# Altium footprint library Miscellaneous Devices.PcbLib: 178 footprints (part 8 of 12)
Each footprint in its own frame and in the unit in brackets; x right, y up, seen from the top. Pads: shape width x height; smd on the part's side, far side on the other; paste and mask are expansions set on the pad; w line width, h text height; cw(c..) or ccw(c..) is an arc to the next point about the centre after c.
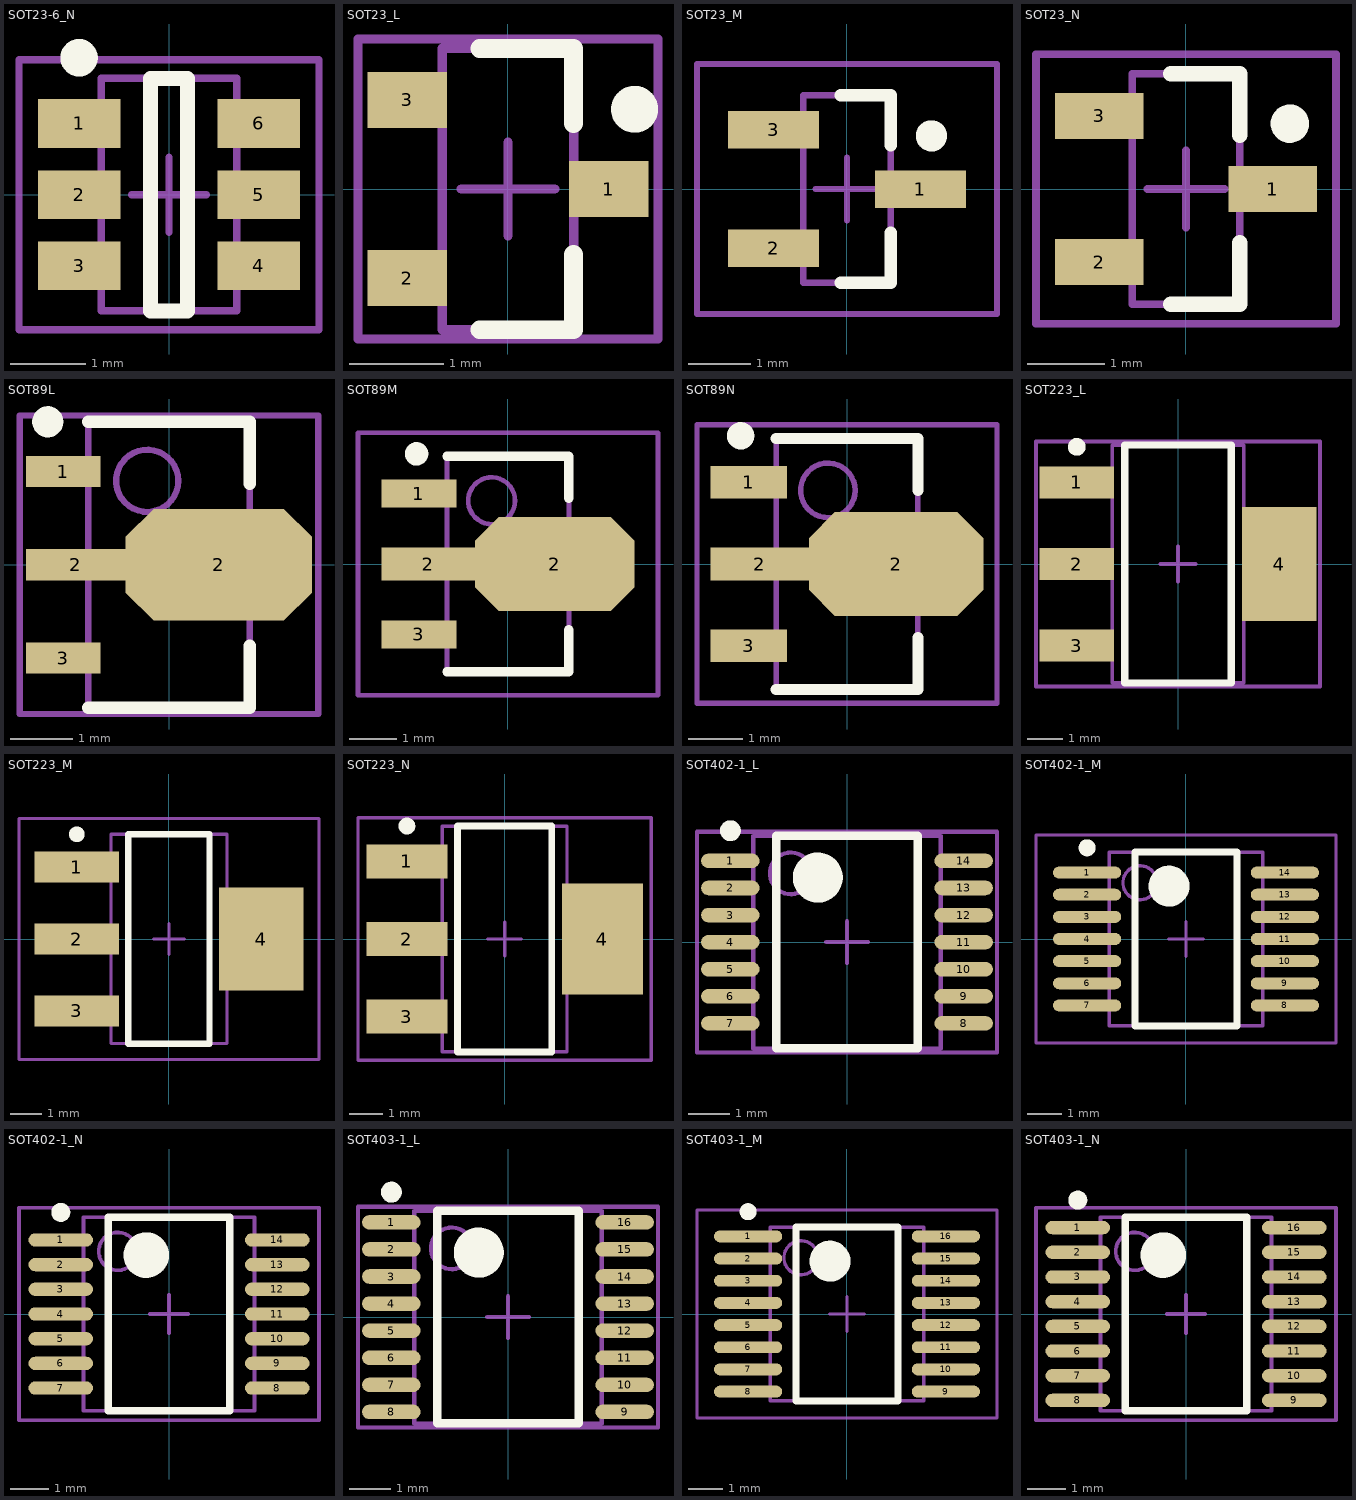
[diagram p7: the footprints below, top view; thin cyan lines are the x and y axes]

## SOT23-6_N [mm] "SOT23, 6-Leads, Body 2.9x1.6mm, Pitch 0.95mm, Lead Span 2.7mm, IPC Medium Density"
height 1.45
pads (6):
  rect 1.1x0.65 smd: 1(-1.2,0.95) 2(-1.2,0) 3(-1.2,-0.95) 4(1.2,-0.95) 5(1.2,0) 6(1.2,0.95)
Top Overlay:
  circle w0.25: c-1.2,1.825 r0.125
  lines w0.2: -0.25,-1.55 -0.25,1.55 0.25,1.55 0.25,-1.55 -0.25,-1.55
Mechanical 13:
  lines w0.1: -0.9,-1.55 0.9,-1.55 0.9,1.55 -0.9,1.55 -0.9,-1.55
Mechanical 15:
  lines w0.1: -0.5,0 0.5,0 ; 0,-0.5 0,0.5 ; -2,-1.8 2,-1.8 2,1.8 -2,1.8 -2,-1.8
3D body: height 1.45, standoff 0, extent -0.9,-1.55 0.9,1.55

## SOT23_L [mm] "SOT23, 3-Leads, Body 2.9x1.3mm, Pitch 0.95mm, Lead Span 2.3mm - Reverse Pinning, IPC High Density"
height 1.1
pads (3):
  rect 0.85x0.6 smd: 1(1.075,0) 2(-1.075,-0.95) 3(-1.075,0.95)
Top Overlay:
  circle w0.25: c1.35,0.85 r0.125
  lines w0.2: -0.3,-1.5 0.7,-1.5 0.7,-0.7 ; -0.3,1.5 0.7,1.5 0.7,0.7
Mechanical 13:
  lines w0.1: -0.7,-1.5 -0.7,1.5 0.7,1.5 0.7,-1.5 -0.7,-1.5
Mechanical 15:
  lines w0.1: -0.5,0 0.5,0 ; 0,-0.5 0,0.5 ; -1.6,-1.6 -1.6,1.6 1.6,1.6 1.6,-1.6 -1.6,-1.6
3D body: height 1.1, standoff 0, extent -0.7,-1.5 0.7,1.5

## SOT23_M [mm] "SOT23, 3-Leads, Body 2.9x1.3mm, Pitch 0.95mm, Lead Span 2.3mm - Reverse Pinning, IPC Low Density"
height 1.1
pads (3):
  rect 1.45x0.6 smd: 1(1.175,0) 2(-1.175,-0.95) 3(-1.175,0.95)
Top Overlay:
  circle w0.25: c1.35,0.85 r0.125
  lines w0.2: -0.1,-1.5 0.7,-1.5 0.7,-0.7 ; -0.1,1.5 0.7,1.5 0.7,0.7
Mechanical 13:
  lines w0.1: -0.7,-1.5 -0.7,1.5 0.7,1.5 0.7,-1.5 -0.7,-1.5
Mechanical 15:
  lines w0.1: -0.5,0 0.5,0 ; 0,-0.5 0,0.5 ; -2.4,-2 -2.4,2 2.4,2 2.4,-2 -2.4,-2
3D body: height 1.1, standoff 0, extent -0.7,-1.5 0.7,1.5

## SOT23_N [mm] "SOT23, 3-Leads, Body 2.9x1.3mm, Pitch 0.95mm, Lead Span 2.3mm - Reverse Pinning, IPC Medium Density"
height 1.1
pads (3):
  rect 1.15x0.6 smd: 1(1.125,0) 2(-1.125,-0.95) 3(-1.125,0.95)
Top Overlay:
  circle w0.25: c1.35,0.85 r0.125
  lines w0.2: -0.2,-1.5 0.7,-1.5 0.7,-0.7 ; -0.2,1.5 0.7,1.5 0.7,0.7
Mechanical 13:
  lines w0.1: -0.7,-1.5 -0.7,1.5 0.7,1.5 0.7,-1.5 -0.7,-1.5
Mechanical 15:
  lines w0.1: -0.5,0 0.5,0 ; 0,-0.5 0,0.5 ; -1.95,-1.75 -1.95,1.75 1.95,1.75 1.95,-1.75 -1.95,-1.75
3D body: height 1.1, standoff 0, extent -0.7,-1.5 0.7,1.5

## SOT89L [mm] "SOT89, 3-Leads, Body 4.5x2.4 mm, Pitch 1.5mm, Lead Span 4.1mm, IPC High Density"
height 1.6
pads (4):
  rect 1.2x0.5 smd: 1(-1.7,1.5) 3(-1.7,-1.5)
  rect 1.6x0.5 smd: 2(-1.5,0)
  oct 3x1.8 smd: 2(0.8,0)
Top Overlay:
  circle w0.25: c-1.95,2.3 r0.125
  lines w0.2: -1.3,-2.3 1.3,-2.3 1.3,-1.3 ; -1.3,2.3 1.3,2.3 1.3,1.3
Mechanical 13:
  circle w0.1: c-0.35,1.35 r0.5
  lines w0.1: -1.3,-2.3 -1.3,2.3 1.3,2.3 1.3,-2.3 -1.3,-2.3
Mechanical 15:
  lines w0.1: -0.5,0 0.5,0 ; 0,-0.5 0,0.5 ; -2.4,-2.4 -2.4,2.4 2.4,2.4 2.4,-2.4 -2.4,-2.4
3D body: height 1.6, standoff 0, extent -1.3,-2.3 1.3,2.3

## SOT89M [mm] "SOT89, 3-Leads, Body 4.5x2.4 mm, Pitch 1.5mm, Lead Span 4.1mm, IPC Low Density"
height 1.6
pads (4):
  rect 1.6x0.6 smd: 1(-1.9,1.5) 3(-1.9,-1.5)
  rect 2x0.7 smd: 2(-1.7,0)
  oct 3.4x2 smd: 2(1,0)
Top Overlay:
  circle w0.25: c-1.95,2.35 r0.125
  lines w0.2: -1.3,-2.3 1.3,-2.3 1.3,-1.4 ; -1.3,2.3 1.3,2.3 1.3,1.4
Mechanical 13:
  circle w0.1: c-0.35,1.35 r0.5
  lines w0.1: -1.3,-2.3 -1.3,2.3 1.3,2.3 1.3,-2.3 -1.3,-2.3
Mechanical 15:
  lines w0.1: -0.5,0 0.5,0 ; 0,-0.5 0,0.5 ; -3.2,-2.8 -3.2,2.8 3.2,2.8 3.2,-2.8 -3.2,-2.8
3D body: height 1.6, standoff 0, extent -1.3,-2.3 1.3,2.3

## SOT89N [mm] "SOT89, 3-Leads, Body 4.5x2.4 mm, Pitch 1.5mm, Lead Span 4.1mm, IPC Medium Density"
height 1.6
pads (4):
  rect 1.4x0.6 smd: 1(-1.8,1.5) 3(-1.8,-1.5)
  rect 1.8x0.6 smd: 2(-1.6,0)
  oct 3.2x1.9 smd: 2(0.9,0)
Top Overlay:
  circle w0.25: c-1.95,2.35 r0.125
  lines w0.2: -1.3,-2.3 1.3,-2.3 1.3,-1.35 ; -1.3,2.3 1.3,2.3 1.3,1.35
Mechanical 13:
  circle w0.1: c-0.35,1.35 r0.5
  lines w0.1: -1.3,-2.3 1.3,-2.3 1.3,2.3 -1.3,2.3 -1.3,-2.3
Mechanical 15:
  lines w0.1: -0.5,0 0.5,0 ; 0,-0.5 0,0.5 ; -2.75,-2.55 2.75,-2.55 2.75,2.55 -2.75,2.55 -2.75,-2.55
3D body: height 1.6, standoff 0, extent -1.3,-2.3 1.3,2.3

## SOT223_L [mm] "SOT223, 4-Leads, Body 6.5x3.5mm, Pitch 2.3mm, Lead Span 7mm, IPC High Density"
height 1.7
pads (4):
  rect 2.1x0.9 smd: 1(-2.85,2.3) 2(-2.85,0) 3(-2.85,-2.3)
  rect 2.1x3.2 smd: 4(2.85,0)
Top Overlay:
  circle w0.25: c-2.85,3.3 r0.125
  lines w0.2: -1.5,-3.35 -1.5,3.35 1.5,3.35 1.5,-3.35 -1.5,-3.35
Mechanical 13:
  lines w0.1: -1.85,-3.35 -1.85,3.35 1.85,3.35 1.85,-3.35 -1.85,-3.35
Mechanical 15:
  lines w0.1: -0.5,0 0.5,0 ; 0,-0.5 0,0.5 ; -4,-3.45 -4,3.45 4,3.45 4,-3.45 -4,-3.45
3D body: height 1.7, standoff 0, extent -1.85,-3.35 1.85,3.35

## SOT223_M [mm] "SOT223, 4-Leads, Body 6.5x3.5mm, Pitch 2.3mm, Lead Span 7mm, IPC Low Density"
height 1.7
pads (4):
  rect 2.7x1 smd: 1(-2.95,2.3) 2(-2.95,0) 3(-2.95,-2.3)
  rect 2.7x3.3 smd: 4(2.95,0)
Top Overlay:
  circle w0.25: c-2.95,3.35 r0.125
  lines w0.2: -1.3,-3.35 1.3,-3.35 1.3,3.35 -1.3,3.35 -1.3,-3.35
Mechanical 13:
  lines w0.1: -1.85,-3.35 1.85,-3.35 1.85,3.35 -1.85,3.35 -1.85,-3.35
Mechanical 15:
  lines w0.1: -0.5,0 0.5,0 ; 0,-0.5 0,0.5 ; -4.8,-3.85 4.8,-3.85 4.8,3.85 -4.8,3.85 -4.8,-3.85
3D body: height 1.7, standoff 0, extent -1.85,-3.35 1.85,3.35

## SOT223_N [mm] "SOT223, 4-Leads, Body 6.5x3.5mm, Pitch 2.3mm, Lead Span 7mm, IPC Medium Density"
height 1.7
pads (4):
  rect 2.4x1 smd: 1(-2.9,2.3) 2(-2.9,0) 3(-2.9,-2.3)
  rect 2.4x3.3 smd: 4(2.9,0)
Top Overlay:
  circle w0.25: c-2.9,3.35 r0.125
  lines w0.2: -1.4,-3.35 1.4,-3.35 1.4,3.35 -1.4,3.35 -1.4,-3.35
Mechanical 13:
  lines w0.1: -1.85,-3.35 1.85,-3.35 1.85,3.35 -1.85,3.35 -1.85,-3.35
Mechanical 15:
  lines w0.1: -0.5,0 0.5,0 ; 0,-0.5 0,0.5 ; -4.35,-3.6 4.35,-3.6 4.35,3.6 -4.35,3.6 -4.35,-3.6
3D body: height 1.7, standoff 0, extent -1.85,-3.35 1.85,3.35

## SOT402-1_L [mm] "TSOP, 14-Leads, Body 5x4.4mm, Pitch 0.65mm, IPC High Density"
height 1.1
pads (14):
  oval 1.4x0.35 smd: 1(-2.8,1.95) 2(-2.8,1.3) 3(-2.8,0.65) 4(-2.8,0) 5(-2.8,-0.65) 6(-2.8,-1.3) 7(-2.8,-1.95) 8(2.8,-1.95) 9(2.8,-1.3) 10(2.8,-0.65) 11(2.8,0) 12(2.8,0.65) 13(2.8,1.3) 14(2.8,1.95)
Top Overlay:
  circle w0.6: c-0.7,1.55 r0.3
  circle w0.25: c-2.8,2.675 r0.125
  lines w0.2: -1.7,-2.55 1.7,-2.55 1.7,2.55 -1.7,2.55 -1.7,-2.55
Mechanical 13:
  circle w0.1: c-1.35,1.65 r0.5
  lines w0.1: -2.25,-2.55 2.25,-2.55 2.25,2.55 -2.25,2.55 -2.25,-2.55
Mechanical 15:
  lines w0.1: -0.5,0 0.5,0 ; 0,-0.5 0,0.5 ; -3.6,-2.65 3.6,-2.65 3.6,2.65 -3.6,2.65 -3.6,-2.65
3D body: height 1.1, standoff 0, extent -2.25,-2.55 2.25,2.55

## SOT402-1_M [mm] "TSOP, 14-Leads, Body 5x4.4mm, Pitch 0.65mm, IPC Low Density"
height 1.1
pads (14):
  oval 2x0.35 smd: 1(-2.9,1.95) 2(-2.9,1.3) 3(-2.9,0.65) 4(-2.9,0) 5(-2.9,-0.65) 6(-2.9,-1.3) 7(-2.9,-1.95) 8(2.9,-1.95) 9(2.9,-1.3) 10(2.9,-0.65) 11(2.9,0) 12(2.9,0.65) 13(2.9,1.3) 14(2.9,1.95)
Top Overlay:
  circle w0.6: c-0.5,1.55 r0.3
  circle w0.25: c-2.9,2.675 r0.125
  lines w0.2: -1.5,-2.55 1.5,-2.55 1.5,2.55 -1.5,2.55 -1.5,-2.55
Mechanical 13:
  circle w0.1: c-1.35,1.65 r0.5
  lines w0.1: -2.25,-2.55 2.25,-2.55 2.25,2.55 -2.25,2.55 -2.25,-2.55
Mechanical 15:
  lines w0.1: -0.5,0 0.5,0 ; 0,-0.5 0,0.5 ; -4.4,-3.05 4.4,-3.05 4.4,3.05 -4.4,3.05 -4.4,-3.05
3D body: height 1.1, standoff 0, extent -2.25,-2.55 2.25,2.55

## SOT402-1_N [mm] "TSOP, 14-Leads, Body 5x4.4mm, Pitch 0.65mm, IPC Medium Density"
height 1.1
pads (14):
  oval 1.7x0.35 smd: 1(-2.85,1.95) 2(-2.85,1.3) 3(-2.85,0.65) 4(-2.85,0) 5(-2.85,-0.65) 6(-2.85,-1.3) 7(-2.85,-1.95) 8(2.85,-1.95) 9(2.85,-1.3) 10(2.85,-0.65) 11(2.85,0) 12(2.85,0.65) 13(2.85,1.3) 14(2.85,1.95)
Top Overlay:
  circle w0.6: c-0.6,1.55 r0.3
  circle w0.25: c-2.85,2.675 r0.125
  lines w0.2: -1.6,-2.55 1.6,-2.55 1.6,2.55 -1.6,2.55 -1.6,-2.55
Mechanical 13:
  circle w0.1: c-1.35,1.65 r0.5
  lines w0.1: -2.25,-2.55 2.25,-2.55 2.25,2.55 -2.25,2.55 -2.25,-2.55
Mechanical 15:
  lines w0.1: -0.5,0 0.5,0 ; 0,-0.5 0,0.5 ; -3.95,-2.8 3.95,-2.8 3.95,2.8 -3.95,2.8 -3.95,-2.8
3D body: height 1.1, standoff 0, extent -2.25,-2.55 2.25,2.55

## SOT403-1_L [mm] "TSOP, 16-Leads, Body 5x4.4mm, Pitch 0.65mm, IPC High Density"
height 1.1
pads (16):
  oval 1.4x0.35 smd: 1(-2.8,2.275) 2(-2.8,1.625) 3(-2.8,0.975) 4(-2.8,0.325) 5(-2.8,-0.325) 6(-2.8,-0.975) 7(-2.8,-1.625) 8(-2.8,-2.275) 9(2.8,-2.275) 10(2.8,-1.625) 11(2.8,-0.975) 12(2.8,-0.325) 13(2.8,0.325) 14(2.8,0.975) 15(2.8,1.625) 16(2.8,2.275)
Top Overlay:
  circle w0.25: c-2.8,3 r0.125
  circle w0.6: c-0.7,1.55 r0.3
  lines w0.2: -1.7,-2.55 -1.7,2.55 1.7,2.55 1.7,-2.55 -1.7,-2.55
Mechanical 13:
  circle w0.1: c-1.35,1.65 r0.5
  lines w0.1: -2.25,-2.55 -2.25,2.55 2.25,2.55 2.25,-2.55 -2.25,-2.55
Mechanical 15:
  lines w0.1: -0.5,0 0.5,0 ; 0,-0.5 0,0.5 ; -3.6,-2.65 -3.6,2.65 3.6,2.65 3.6,-2.65 -3.6,-2.65
3D body: height 1.1, standoff 0, extent -2.25,-2.55 2.25,2.55

## SOT403-1_M [mm] "TSOP, 16-Leads, Body 5x4.4mm, Pitch 0.65mm, IPC Low Density"
height 1.1
pads (16):
  oval 2x0.35 smd: 1(-2.9,2.275) 2(-2.9,1.625) 3(-2.9,0.975) 4(-2.9,0.325) 5(-2.9,-0.325) 6(-2.9,-0.975) 7(-2.9,-1.625) 8(-2.9,-2.275) 9(2.9,-2.275) 10(2.9,-1.625) 11(2.9,-0.975) 12(2.9,-0.325) 13(2.9,0.325) 14(2.9,0.975) 15(2.9,1.625) 16(2.9,2.275)
Top Overlay:
  circle w0.25: c-2.9,3 r0.125
  circle w0.6: c-0.5,1.55 r0.3
  lines w0.2: -1.5,-2.55 -1.5,2.55 1.5,2.55 1.5,-2.55 -1.5,-2.55
Mechanical 13:
  circle w0.1: c-1.35,1.65 r0.5
  lines w0.1: -2.25,-2.55 -2.25,2.55 2.25,2.55 2.25,-2.55 -2.25,-2.55
Mechanical 15:
  lines w0.1: -0.5,0 0.5,0 ; 0,-0.5 0,0.5 ; -4.4,-3.05 -4.4,3.05 4.4,3.05 4.4,-3.05 -4.4,-3.05
3D body: height 1.1, standoff 0, extent -2.25,-2.55 2.25,2.55

## SOT403-1_N [mm] "TSOP, 16-Leads, Body 5x4.4mm, Pitch 0.65mm, IPC Medium Density"
height 1.1
pads (16):
  oval 1.7x0.35 smd: 1(-2.85,2.275) 2(-2.85,1.625) 3(-2.85,0.975) 4(-2.85,0.325) 5(-2.85,-0.325) 6(-2.85,-0.975) 7(-2.85,-1.625) 8(-2.85,-2.275) 9(2.85,-2.275) 10(2.85,-1.625) 11(2.85,-0.975) 12(2.85,-0.325) 13(2.85,0.325) 14(2.85,0.975) 15(2.85,1.625) 16(2.85,2.275)
Top Overlay:
  circle w0.25: c-2.85,3 r0.125
  circle w0.6: c-0.6,1.55 r0.3
  lines w0.2: -1.6,-2.55 -1.6,2.55 1.6,2.55 1.6,-2.55 -1.6,-2.55
Mechanical 13:
  circle w0.1: c-1.35,1.65 r0.5
  lines w0.1: -2.25,-2.55 -2.25,2.55 2.25,2.55 2.25,-2.55 -2.25,-2.55
Mechanical 15:
  lines w0.1: -0.5,0 0.5,0 ; 0,-0.5 0,0.5 ; -3.95,-2.8 -3.95,2.8 3.95,2.8 3.95,-2.8 -3.95,-2.8
3D body: height 1.1, standoff 0, extent -2.25,-2.55 2.25,2.55